# EAGLE library part FC1-10-02-T-FFC_CABLE_CONTACTS (library FC1-10-02-T - FFC Cable Contacts)
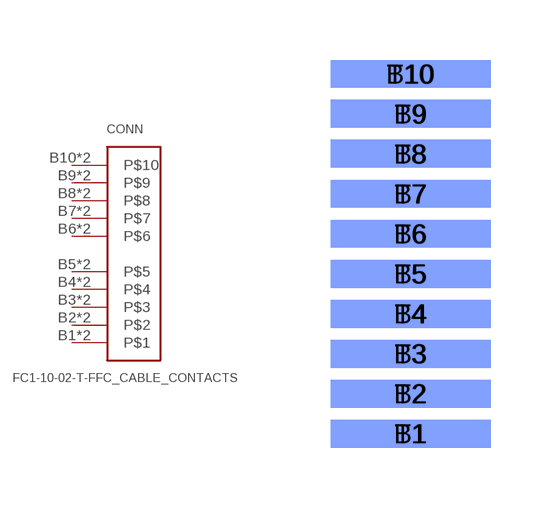
[diagram p0: symbol with the pads of SMD; footprint SMD]

Designator prefix CONN

## FC1-10-02-T-FFC_CABLE_CONTACTS  [SMD]
B1  P$1
B2  P$2
B3  P$3
B4  P$4
B5  P$5
B6  P$6
B7  P$7
B8  P$8
B9  P$9
B10  P$10
T1  P$1
T2  P$2
T3  P$3
T4  P$4
T5  P$5
T6  P$6
T7  P$7
T8  P$8
T9  P$9
T10  P$10

## Footprint SMD (pad centres in mm)
smd 4 x 0.7 bottom: B1 0,-4.5; B2 0,-3.5; B3 0,-2.5; B4 0,-1.5; B5 0,-0.5; B6 0,0.5; B7 0,1.5; B8 0,2.5; B9 0,3.5; B10 0,4.5
smd 4 x 0.7: T1 0,-4.5; T2 0,-3.5; T3 0,-2.5; T4 0,-1.5; T5 0,-0.5; T6 0,0.5; T7 0,1.5; T8 0,2.5; T9 0,3.5; T10 0,4.5